# Altium footprint library Driver.PcbLib: 20 footprints (part 2 of 2)
Each footprint in its own frame and in the unit in brackets; x right, y up, seen from the top. Pads: shape width x height; smd on the part's side, far side on the other; paste and mask are expansions set on the pad; w line width, h text height; cw(c..) or ccw(c..) is an arc to the next point about the centre after c.
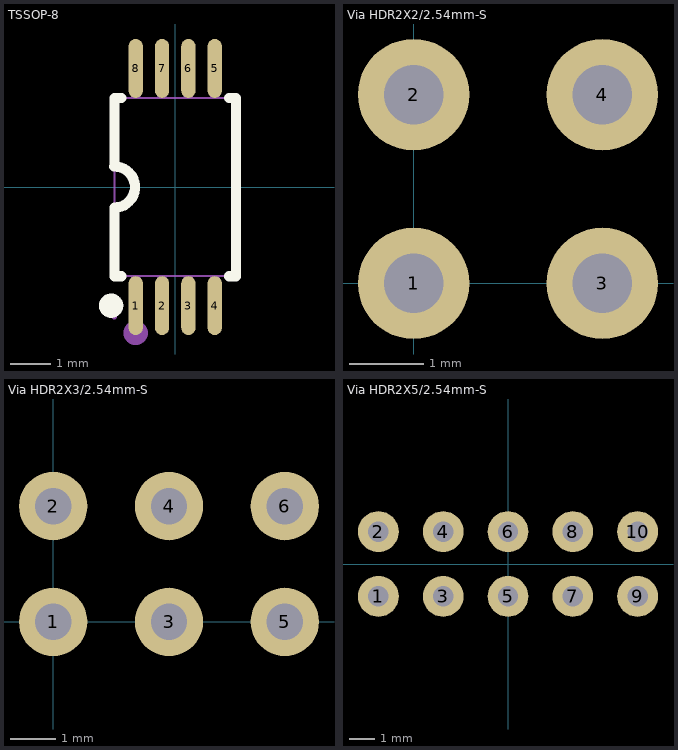
[diagram p1: the footprints below, top view; thin cyan lines are the x and y axes]

## TSSOP-8 [mm]
pads (8):
  oval 0.353x1.454 smd: 1(-0.975,-2.927) 2(-0.325,-2.927) 3(0.325,-2.927) 4(0.975,-2.927) 5(0.975,2.927) 6(0.325,2.927) 7(-0.325,2.927) 8(-0.975,2.927)
Top Overlay:
  circle w0.3: c-1.581,-2.927 r0.15
  lines w0.254: -1.501,0.508 cw(c-1.501,0) -1.5,-0.508 -1.5,-2.2 -1.328,-2.2 ; -1.5,0.508 -1.5,2.2 -1.328,2.2 ; 1.328,-2.2 1.5,-2.2 1.5,2.2 1.328,2.2
Mechanical 6:
  circle w0.3: c-0.975,-3.6 r0.15
Mechanical 15:
  region: 0.865,2.71 0.865,2.19 1.085,2.19 1.085,2.71
  region: 0.865,3.2 0.865,2.7 1.085,2.7 1.085,3.2
  region: 0.215,2.71 0.215,2.19 0.435,2.19 0.435,2.71
  region: 0.215,3.2 0.215,2.7 0.435,2.7 0.435,3.2
  region: -0.435,2.71 -0.435,2.19 -0.215,2.19 -0.215,2.71
  region: -0.435,3.2 -0.435,2.7 -0.215,2.7 -0.215,3.2
  region: -1.085,2.71 -1.085,2.19 -0.865,2.19 -0.865,2.71
  region: -1.085,3.2 -1.085,2.7 -0.865,2.7 -0.865,3.2
  region: 0.865,-2.71 0.865,-2.19 1.085,-2.19 1.085,-2.71
  region: 0.865,-3.2 0.865,-2.7 1.085,-2.7 1.085,-3.2
  region: 0.215,-2.71 0.215,-2.19 0.435,-2.19 0.435,-2.71
  region: 0.215,-3.2 0.215,-2.7 0.435,-2.7 0.435,-3.2
  region: -0.435,-2.71 -0.435,-2.19 -0.215,-2.19 -0.215,-2.71
  region: -0.435,-3.2 -0.435,-2.7 -0.215,-2.7 -0.215,-3.2
  region: -1.085,-2.71 -1.085,-2.19 -0.865,-2.19 -0.865,-2.71
  region: -1.085,-3.2 -1.085,-2.7 -0.865,-2.7 -0.865,-3.2
  region: -1.44,-3.2 -1.44,-3.175 -1.475,-3.14 -1.525,-3.14 -1.56,-3.175 -1.56,-3.2 -1.56,-3.225 -1.525,-3.26 -1.475,-3.26 -1.44,-3.225 -1.44,-3.2
  lines w0.051: -1.5,-2.2 1.5,-2.2 1.5,2.2 -1.5,2.2 -1.5,-2.2
3D body "User Library-TSS0P8.STEP": height 1.09, standoff 0, extent -1.416,-3.14 1.583,3.14

## Via HDR2X2/2.54mm-S [mm] "Connector; Header; 3x2 Position"
pads (4):
  round 1.5 hole 0.8: 1(0,0) 2(0,2.54) 3(2.54,0) 4(2.54,2.54)

## Via HDR2X3/2.54mm-S [mm] "Connector; Header; 3x2 Position"
pads (6):
  round 1.5 hole 0.8: 1(0,0) 2(0,2.54) 3(2.54,0) 4(2.54,2.54) 5(5.08,0) 6(5.08,2.54)

## Via HDR2X5/2.54mm-S [mm] "双排排针，5x2脚"
pads (10):
  round 1.6 hole 0.8: 1(-5.08,-1.27) 2(-5.08,1.27) 3(-2.54,-1.27) 4(-2.54,1.27) 5(0,-1.27) 6(0,1.27) 7(2.54,-1.27) 8(2.54,1.27) 9(5.08,-1.27) 10(5.08,1.27)